# Altium footprint library TERM_0.25IN_3x1_0.PcbLib: 1 footprints
Each footprint in its own frame and in the unit in brackets; x right, y up, seen from the top. Pads: shape width x height; smd on the part's side, far side on the other; paste and mask are expansions set on the pad; w line width, h text height; cw(c..) or ccw(c..) is an arc to the next point about the centre after c.
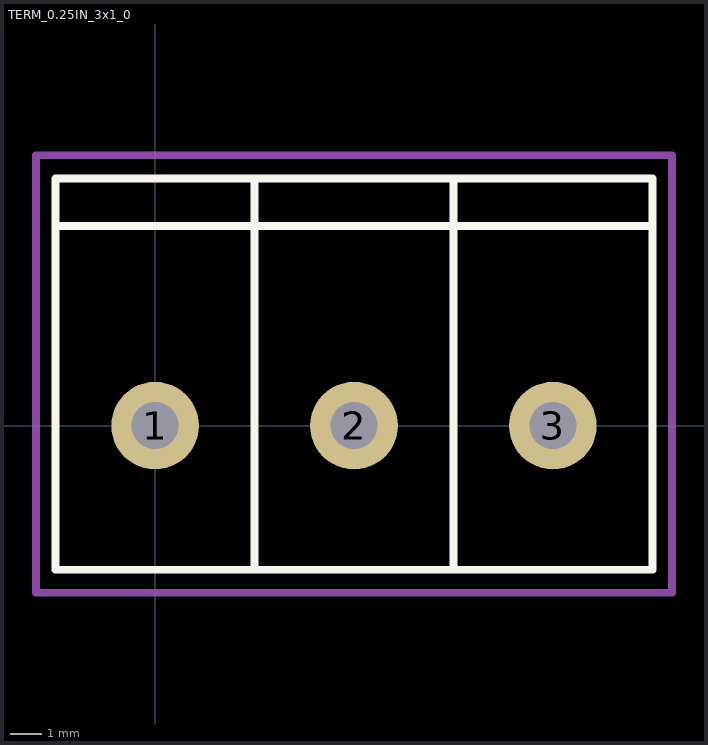
[diagram p0: the footprint, top view; thin cyan lines are the x and y axes]

## TERM_0.25IN_3x1_0 [mm] "Terminal Block, 0.25\" Spacing, 3x1"
pads (3):
  round 2.8 hole 1.5: 1(0,0) 2(6.35,0) 3(12.7,0)
Top Overlay:
  lines w0.254: -3.175,6.376 15.875,6.376 ; 3.175,-4.6 3.175,7.9 ; 9.525,-4.6 9.525,7.9 ; -3.175,-4.6 -3.175,7.9 15.875,7.9 15.875,-4.6 -3.175,-4.6
Mechanical 15:
  lines w0.254: -3.81,-5.334 16.51,-5.334 16.51,8.636 -3.81,8.636 -3.81,-5.334